# Altium footprint library 单灯控制器.PcbLib: 58 footprints (part 4 of 4)
Each footprint in its own frame and in the unit in brackets; x right, y up, seen from the top. Pads: shape width x height; smd on the part's side, far side on the other; paste and mask are expansions set on the pad; w line width, h text height; cw(c..) or ccw(c..) is an arc to the next point about the centre after c.
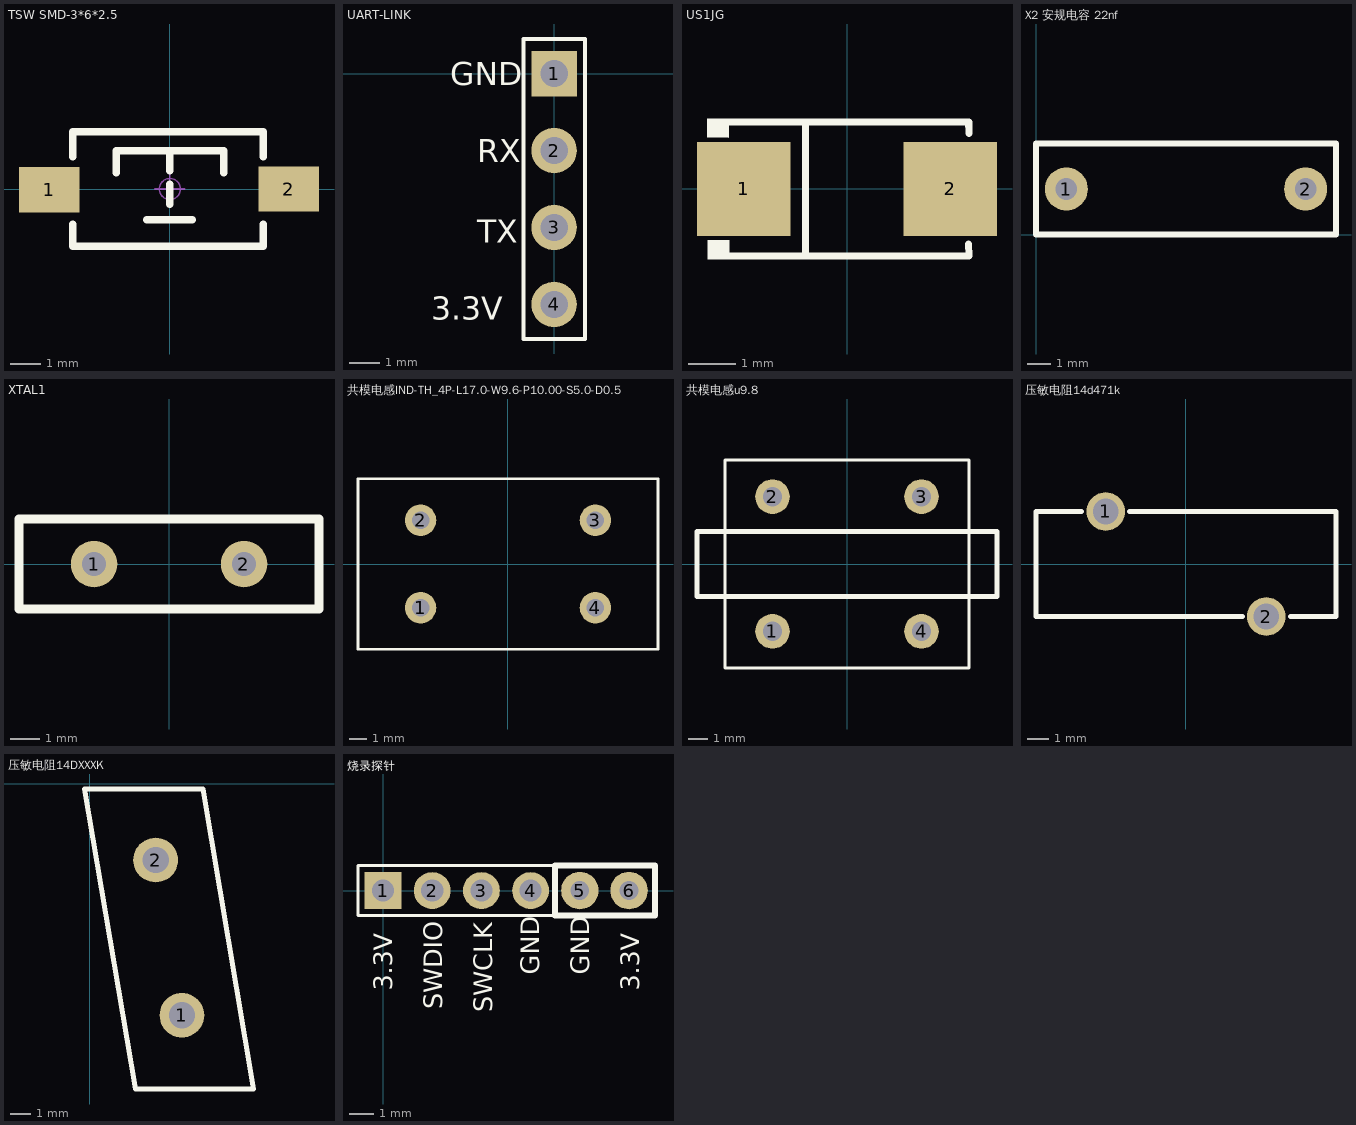
[diagram p3: the footprints below, top view; thin cyan lines are the x and y axes]

## TSW SMD-3*6*2.5 [mm] "3*6*2.5mm"
pads (2):
  rect 2x1.5 smd: 1(-3.996,-0.02) 2(3.937,0)
Top Overlay:
  lines w0.254: -3.212,-1.168 -3.212,-1.9 3.088,-1.9 3.088,-1.168 ; -3.212,1.067 -3.212,1.9 3.088,1.9 3.088,1.067 ; -1.778,0.533 -1.778,1.27 1.778,1.27 1.778,0.533 ; -0.762,-1.016 0.737,-1.016 ; 0,-0.508 0,0.152 ; 0,0.61 0,1.27
Mechanical 15:
  circle w0.05: c0,0 r0.35
  lines w0.05: -0.5,0 0.5,0 ; 0,-0.5 0,0.5
3D body "TSW SMD-3x6x2.5.STEP": height 2.59, standoff -0.03, extent -4,-1.877 4,1.623

## UART-LINK [mm] "Connector; Header; 10x2 Position"
pads (4):
  rect 1.5x1.5 hole 0.9: 1(0,0)
  round 1.5 hole 0.9: 2(0,-2.54) 3(0,-5.08) 4(0,-7.62)
Top Overlay:
  lines w0.127: -1.016,-8.763 -1.016,1.143 1.016,1.143 1.016,-8.763 -1.016,-8.763
  text "3.3V" at -4.064,-8.128 h0.76
  text "TX" at -2.54,-5.588 h0.76
  text "RX" at -2.54,-2.921 h0.76
  text "GND" at -3.429,-0.381 h0.76

## US1JG [mm]
pads (2):
  rect 2x2 smd: 1(-2.2,0) 2(2.2,0)
Top Overlay:
  region: -2.512,-1.096 -2.513,-1.503 -2.973,-1.498 -2.969,-1.096
  region: -2.52,1.502 -2.521,1.096 -2.981,1.1 -2.977,1.502
  lines w0.152: -2.596,-1.426 2.596,-1.426 ; -2.596,1.426 2.596,1.426 2.603,1.187 ; -0.884,-1.426 -0.884,1.426 ; 2.593,-1.176 2.6,-1.415

## X2 安规电容 22nf [mm]
pads (2):
  round 1.8 hole 0.9: 1(1.27,1.905) 2(11.27,1.905)
Top Overlay:
  lines w0.254: 0,0 0,3.81 12.54,3.81 12.54,0 0,0

## XTAL1 [mil]
pads (2):
  round 62 hole 32: 1(-100,0) 2(100,0)
Top Overlay:
  lines w12: -200,-60 -200,60 200,60 200,-60 -200,-60

## 共模电感IND-TH_4P-L17.0-W9.6-P10.00-S5.0-D0.5 [mm]
pads (4):
  round 1.8 hole 1: 1(-5,-2.5) 2(-5,2.5) 3(5,2.5) 4(5,-2.5)
Top Overlay:
  lines w0.152: -8.576,-4.876 -8.576,4.876 8.576,4.876 8.576,-4.876 -8.576,-4.876

## 共模电感u9.8 [mm]
pads (4):
  round 1.8 hole 1: 1(-3.875,-3.5) 2(-3.875,3.5) 3(3.875,3.5) 4(3.875,-3.5)
Top Overlay:
  lines w0.152: -6.335,-5.4 -6.335,5.4 6.335,5.4 6.335,-5.4 -6.335,-5.4
  lines w0.254: -7.8,-1.7 7.8,-1.7 7.8,1.7 -7.8,1.7 -7.8,-1.7

## 压敏电阻14d471k [mm] "RES-TH_L14.0-W4.9-P7.50-D0.8-S4.90"
pads (2):
  round 1.8 hole 1.2: 1(-3.75,2.45) 2(3.75,-2.45)
Top Overlay:
  lines w0.254: -4.881,2.45 -7,2.45 -7,-2.45 2.619,-2.45 ; -2.619,2.45 7,2.45 7,-2.45 4.881,-2.45

## 压敏电阻14DXXXK [mil] "压敏电阻"
pads (2):
  round 85 hole 50: 1(175,-440) 2(125,-145)
Top Overlay:
  lines w10: -9.98,-10 215,-10 310.84,-580 86.94,-580 -9.98,-10

## 烧录探针 [mm] "Connector; Header; 10x2 Position"
pads (6):
  rect 1.5x1.5 hole 0.9: 1(0,0)
  round 1.5 hole 0.9: 2(2,0) 3(4,0) 4(6,0)
  round 1.524 hole 0.762: 5(8,0) 6(10,0)
Top Overlay:
  lines w0.127: -1.016,-1.016 -1.016,1.016 11.049,1.016 11.049,-1.016 -1.016,-1.016
  lines w0.254: 11.049,-1.016 6.985,-1.016 6.985,1.016 11.049,1.016 ; 11.049,-1.016 11.049,-1.016 ; 11.049,-1.016 11.049,1.016 ; 11.049,1.016 11.049,1.016
  text "GND" at 6.35,-3.429 h0.76
  text "SWCLK" at 4.445,-4.953 h0.76
  text "SWDIO" at 2.413,-4.826 h0.76
  text "3.3V" at 0.381,-4.064 h0.76
  text "GND" at 8.382,-3.429 h0.76
  text "3.3V" at 10.414,-4.064 h0.76